# EAGLE library part GHI-HEADERS_1X6-(INCH)-0.1- (library BeagleBone_Black_Wireless)
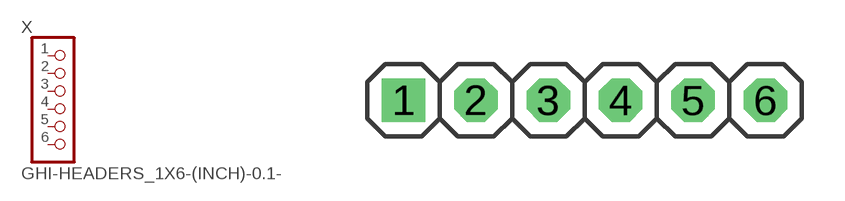
[diagram p12: symbol with the pads of GHI-HEADERS_TH-1X6; footprint GHI-HEADERS_TH-1X6]

Designator prefix X

## GHI-HEADERS_1X6-(INCH)-0.1-TH  [GHI-HEADERS_TH-1X6]
1  1  pas
2  2  pas
3  3  pas
4  4  pas
5  5  pas
6  6  pas

## Footprint GHI-HEADERS_TH-1X6 (pad centres in mm)
drill 1.016 square: 1 -6.35,0
drill 1.016 octagon: 2 -3.81,0; 3 -1.27,0; 4 1.27,0; 5 3.81,0; 6 6.35,0